# EAGLE library part 615108137421R (library USB_c_conn)
Modular Jack Horizonal Shielded with LED and EMI Panel Finger 8P8C THR Compatible Tab Up WR-MJ KIND PROPERTIES: Quality Class 750 Mating cycles MATERIAL PROPERTIES: Insulator Material PA9T Insulator Flammability Rating UL94 V-0 Insulator Color Black Contact Material Copper Alloy Contact Plating Selective Gold Contact Type Stamped Shielding Material Brass Shielding Plating Nickel GENERAL PROPERTIES: Operating Temperature -40 °C up to +85 °C Compliance Lead free / RoHS ELECTRICAL PROPERTIES: Rated Current [1] 1.5 A Withstanding Voltage 1000 V (AC) Contact Resistance 30 mΩ Insulation Resistance 1000 MΩ STANDARD: UL Approval E324776 PACKAGING PROPERTIES: Packaging Tape and Reel Packaging Unit (Qty.) 100 mm <http://katalog.we-online.de/media/images/v2/Family_WR-MJ_615108137421R.jpg> Details see: http://katalog.we-online.de/em/datasheet/615108137421R.pdf Created 2017-11-30, Yingchun,Shan 2017 (C) Würth Elektronik
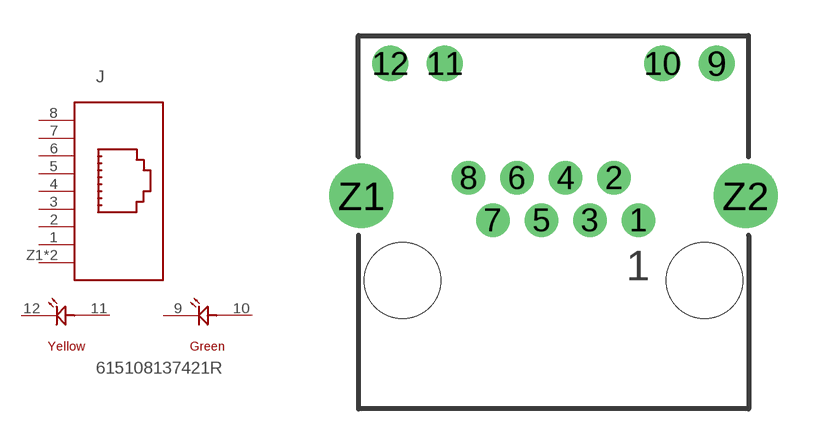
[diagram p180: symbol with the pads of 615108137421R; footprint 615108137421R]

Designator prefix J

## 615108137421R  [615108137421R]
1  1  pas
2  2  pas
3  3  pas
4  4  pas
5  5  pas
6  6  pas
7  7  pas
8  8  pas
9  12  pas
10  11  pas
11  9  pas
12  10  pas
Z1  SHIELD  pas
Z2  SHIELD  pas

## Footprint 615108137421R (pad centres in mm)
drill 0.9: 1 3.57,2.54; 2 2.55,4.32; 3 1.53,2.54; 4 0.51,4.32; 5 -0.51,2.54; 6 -1.53,4.32; 7 -2.55,2.54; 8 -3.57,4.32
drill 1: 9 6.86,9.13; 10 4.57,9.13; 11 -4.57,9.13; 12 -6.86,9.13
drill 1.8: Z1 -8.075,3.56; Z2 8.075,3.56
hole 3.2 at -6.35,0
hole 3.2 at 6.35,0